# Altium footprint library Diode-DO41.PcbLib: 1 footprints
Each footprint in its own frame and in the unit in brackets; x right, y up, seen from the top. Pads: shape width x height; smd on the part's side, far side on the other; paste and mask are expansions set on the pad; w line width, h text height; cw(c..) or ccw(c..) is an arc to the next point about the centre after c.
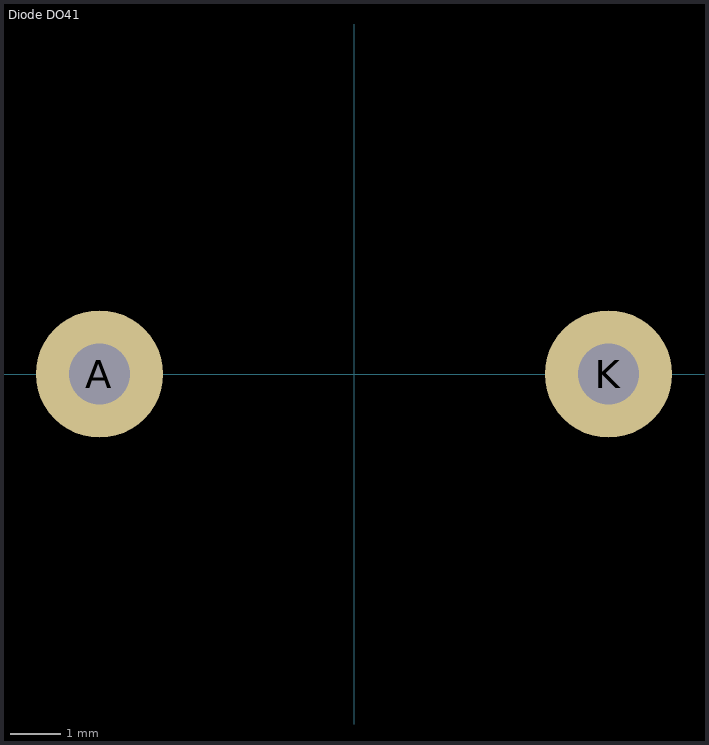
[diagram p0: the footprint, top view; thin cyan lines are the x and y axes]

## Diode DO41 [mm] "Diode DO41"
pads (2):
  round 2.5 hole 1.2: A(-5,0) K(5,0)
3D body "Diode DO41.STEP": height 3.28, standoff -2.45, extent -5.508,-1.43 5.508,1.27